# Altium footprint library XBEE_SMT.PcbLib: 1 footprints
Each footprint in its own frame and in the unit in brackets; x right, y up, seen from the top. Pads: shape width x height; smd on the part's side, far side on the other; paste and mask are expansions set on the pad; w line width, h text height; cw(c..) or ccw(c..) is an arc to the next point about the centre after c.
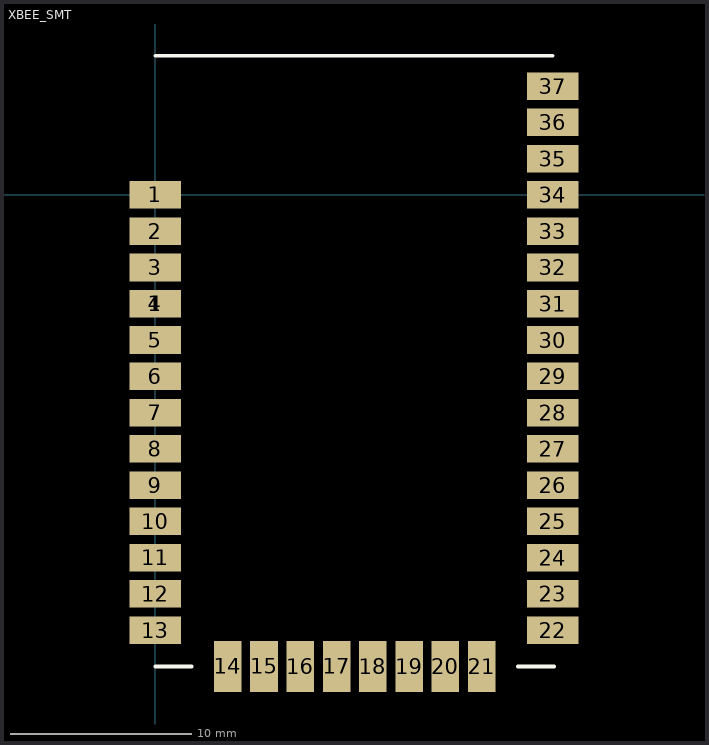
[diagram p0: the footprint, top view; thin cyan lines are the x and y axes]

## XBEE_SMT [mil]
pads (38):
  rect 112x60 smd: 1(0,-237) 1(0,0) 2(0,-79) 3(0,-158) 4(0,-237) 5(0,-316) 6(0,-395) 7(0,-474) 8(0,-553) 9(0,-632) 10(0,-711) 11(0,-790) 12(0,-869) 13(0,-948) 22(866,-948) 23(866,-869) 24(866,-790) 25(866,-711) 26(866,-632) 27(866,-553) 28(866,-474) 29(866,-395) 30(866,-316) 31(866,-237) 32(866,-158) 33(866,-79) 34(866,0) 35(866,79) 36(866,158) 37(866,237)
  rect 60x112 smd: 14(158,-1027) 15(237,-1027) 16(316,-1027) 17(395,-1027) 18(474,-1027) 19(553,-1027) 20(632,-1027) 21(711,-1027)
Top Overlay:
  lines w7.87: 0,-1027 79,-1027 ; 0,303 866,303 ; 790,-1027 869,-1027
3D body: height 20, standoff 0, extent 0,-1027 869,303
3D body: height 120, standoff 20, extent 79,-948 790,0